# EAGLE library part MC890 (library dec-con)
RTL Dual JK Flip-Flop
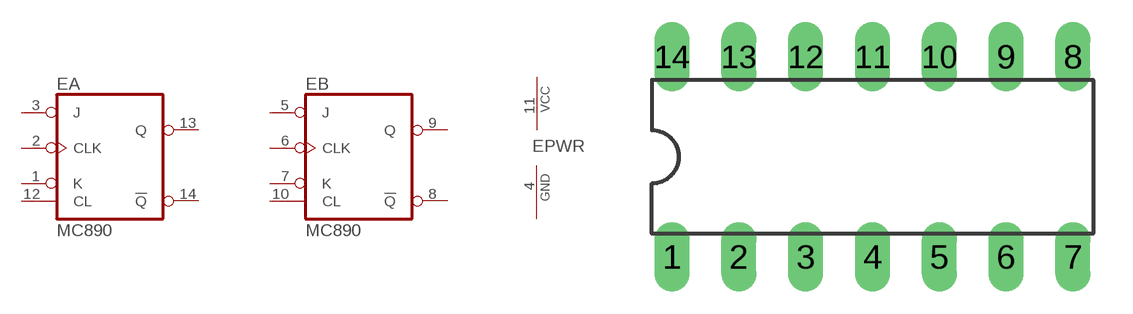
[diagram p48: symbol with the pads of DIL14; footprint DIL14]

Designator prefix E; gates PWR=PWRN A=MC890 B=MC890

## MC890P  [DIL14]
1  A:K  in
2  A:CLK  in
3  A:J  in
4  PWR:GND  pwr
5  B:J  in
6  B:CLK  in
7  B:K  in
8  B:!Q  out
9  B:Q  out
10  B:CL  in
11  PWR:VCC  pwr
12  A:CL  in
13  A:Q  out
14  A:!Q  out

## Footprint DIL14 (pad centres in mm)
Dual In Line Package
drill 0.813 long: 1 -7.62,-3.81; 2 -5.08,-3.81; 3 -2.54,-3.81; 4 0,-3.81; 5 2.54,-3.81; 6 5.08,-3.81; 7 7.62,-3.81; 8 7.62,3.81; 9 5.08,3.81; 10 2.54,3.81; 11 0,3.81; 12 -2.54,3.81; 13 -5.08,3.81; 14 -7.62,3.81